# EAGLE library part CP2105_CP2105-GM (library xbee2)
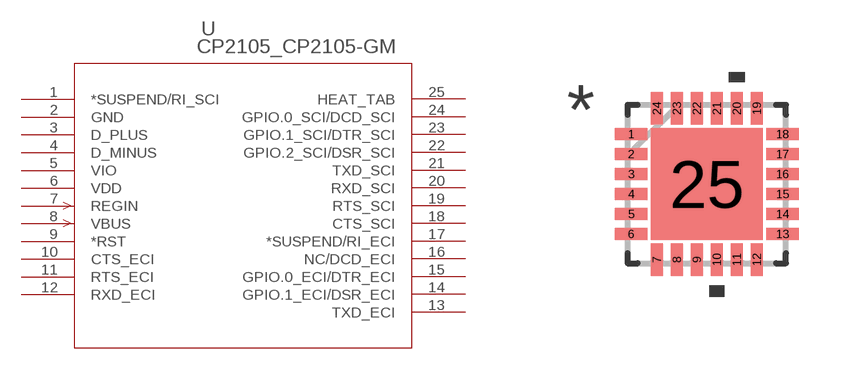
[diagram p0: symbol with the pads of CP2105_QFN24_4X4; footprint CP2105_QFN24_4X4]

Designator prefix -

## CP2105_CP2105-GM  [CP2105_QFN24_4X4]
1  *SUSPEND/RI_SCI  pas
2  GND  pwr
3  D_PLUS  pas
4  D_MINUS  pas
5  VIO  pwr
6  VDD  pwr
7  REGIN  in
8  VBUS  in
9  *RST  pas
10  CTS_ECI  pas
11  RTS_ECI  pas
12  RXD_ECI  pas
13  TXD_ECI  pas
14  GPIO.1_ECI/DSR_ECI  pas
15  GPIO.0_ECI/DTR_ECI  pas
16  NC/DCD_ECI  pas
17  *SUSPEND/RI_ECI  pas
18  CTS_SCI  pas
19  RTS_SCI  pas
20  RXD_SCI  pas
21  TXD_SCI  pas
22  GPIO.2_SCI/DSR_SCI  pas
23  GPIO.1_SCI/DTR_SCI  pas
24  GPIO.0_SCI/DCD_SCI  pas
25  HEAT_TAB  pas

## Footprint CP2105_QFN24_4X4 (pad centres in mm)
smd 0.813 x 0.305: 1 -1.892,1.25; 2 -1.892,0.75; 3 -1.892,0.25; 4 -1.892,-0.25; 5 -1.892,-0.75; 6 -1.892,-1.25; 13 1.892,-1.25; 14 1.892,-0.75; 15 1.892,-0.25; 16 1.892,0.25; 17 1.892,0.75; 18 1.892,1.25
smd 0.305 x 0.813: 7 -1.25,-1.892; 8 -0.75,-1.892; 9 -0.25,-1.892; 10 0.25,-1.892; 11 0.75,-1.892; 12 1.25,-1.892; 19 1.25,1.892; 20 0.75,1.892; 21 0.25,1.892; 22 -0.25,1.892; 23 -0.75,1.892; 24 -1.25,1.892
smd 2.794 x 2.794: 25 0,0